# Altium footprint library 我的PCB.PcbLib: 347 footprints (part 22 of 22)
Each footprint in its own frame and in the unit in brackets; x right, y up, seen from the top. Pads: shape width x height; smd on the part's side, far side on the other; paste and mask are expansions set on the pad; w line width, h text height; cw(c..) or ccw(c..) is an arc to the next point about the centre after c.
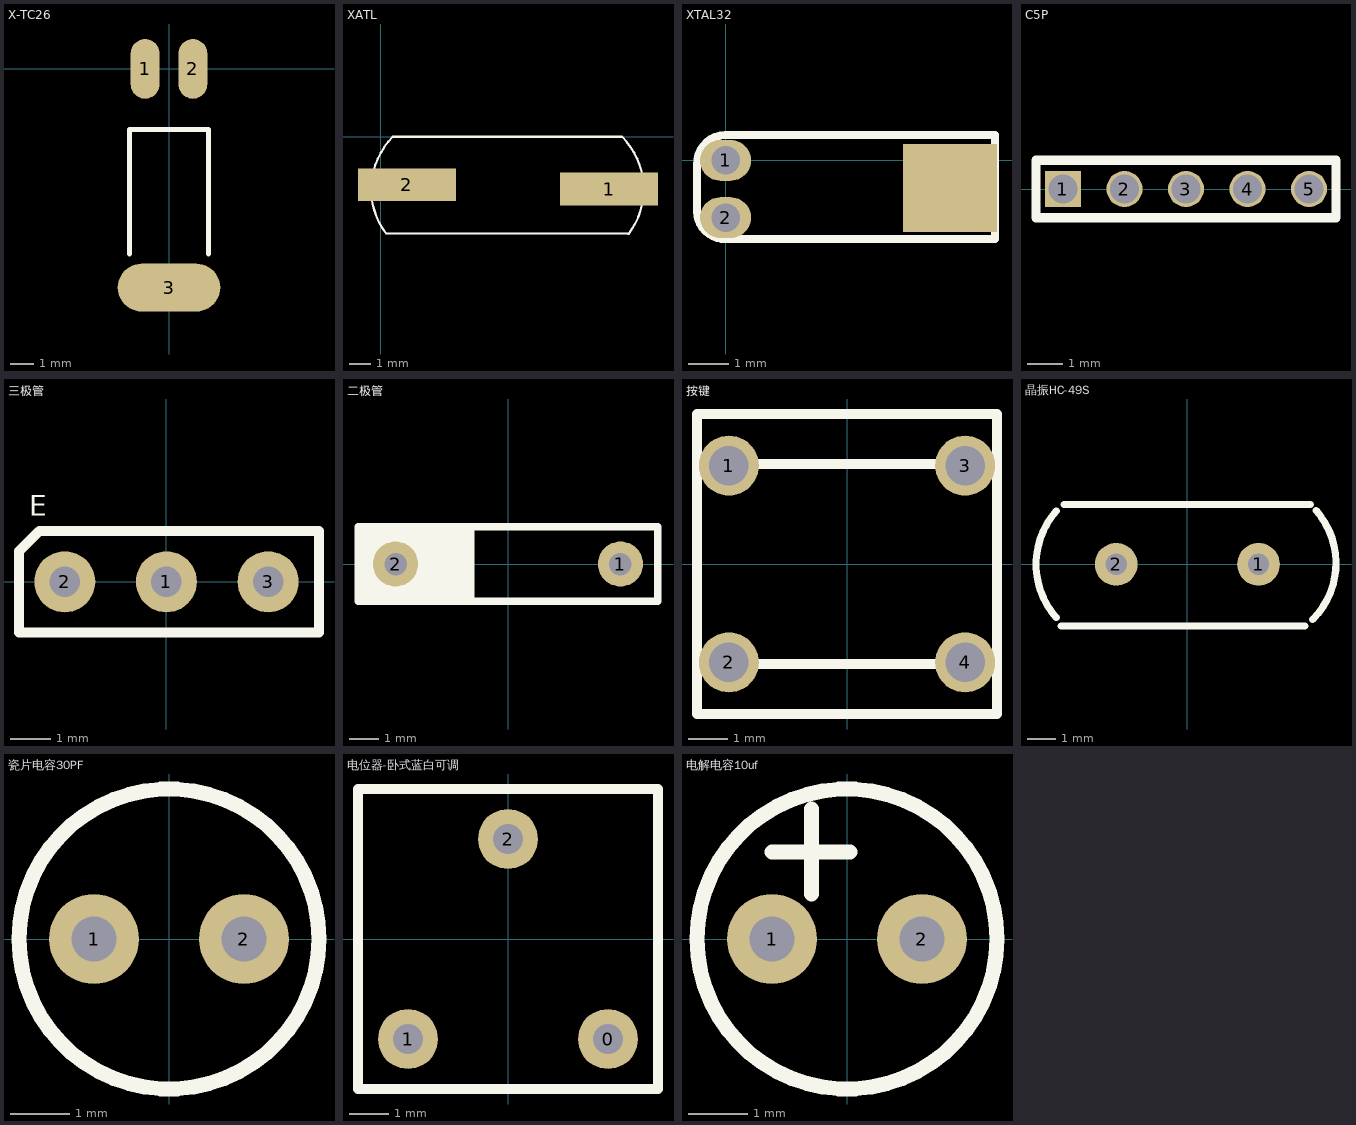
[diagram p21: the footprints below, top view; thin cyan lines are the x and y axes]

## X-TC26 [mm] "圆柱晶振2"
pads (3):
  oval 1.2x2.5 smd: 1(-1,0) 2(1,0)
  oval 4.3x2 smd: 3(0,-9.144)
Top Overlay:
  lines w0.2: -1.651,-7.747 -1.651,-2.54 1.651,-2.54 1.651,-7.747

## XATL [mm]
pads (2):
  rect 4.5x1.5 smd: 1(10.5,-2.4) 2(1.2,-2.2)
Top Overlay:
  lines w0.1: 0.247,-4.452 cw(c2.95,-2.4) 0.55,0 11.1,0 cw(c8.7,-2.4) 11.385,-4.477 ; 0.247,-4.45 11.385,-4.45

## XTAL32 [mil]
pads (3):
  oval 50x40 hole 28: 1(0,0) 2(0,-56)
  rect 92.13x86 smd: ""(220,-27)
Top Overlay:
  lines w8: -28,-50 ccw(c-0.5,-49.5) 0,-77 264,-77 264,25 0,25 ccw(c0.5,-3.5) -28,-4 -28,-50

## С5P [mm]
pads (5):
  rect 1x1 hole 0.8: 1(-10,0)
  round 1 hole 0.8: 2(-8.288,0) 3(-6.575,0) 4(-4.863,0) 5(-3.15,0)
Top Overlay:
  lines w0.254: -10.75,-0.8 -2.4,-0.8 -2.4,0.8 -10.75,0.8 -10.75,-0.8

## 三极管 [mil]
pads (3):
  round 60 hole 30: 1(0,0) 2(-100,0) 3(100,0)
Top Overlay:
  lines w10: -145,-50 -145,30 -125,50 150,50 150,-50 -145,-50
  text "E" at -135,65 h20

## 二极管 [mil]
pads (2):
  round 60 hole 30: 1(150,0) 2(-150,0)
Top Overlay:
  rectangle: -200,-50 -50,50
  lines w10: -100,-50 -100,50 ; -50,-50 -50,50 ; -200,-50 200,-50 200,50 -200,50 -200,-50

## 按键 [mm]
pads (4):
  round 1.524 hole 1: 1(-3,2.5) 2(-3,-2.5) 3(3,2.5) 4(3,-2.5)
Top Overlay:
  lines w0.254: -2.54,-2.54 2.54,-2.54 ; -2.54,2.54 2.54,2.54 ; -3.81,-3.81 -3.81,3.81 3.81,3.81 3.81,-3.81 -3.81,-3.81
3D body: height 8, standoff -3.5, extent -4.134,-3.4 4.134,3.1

## 晶振HC-49S [mil]
pads (2):
  round 60 hole 30: 1(100,0) 2(-100,0)
Top Overlay:
  lines w10: -184.12,-74.85 cw(c-100,0) -184.12,74.85 ; -177.17,-86.61 165.35,-86.61 ; -173.23,84.25 173.23,84.25 ; 176.01,-77.58 ccw(c96.85,1.57) 180.88,75.55
3D body: height 137.8, standoff -157.48, extent -223.43,-93.07 223.43,90

## 瓷片电容30PF [mil]
pads (2):
  round 60 hole 30: 1(-50,0) 2(50,0)
Top Overlay:
  circle w10: c0,0 r100

## 电位器-卧式蓝白可调 [mil] "滑动变阻器"
pads (3):
  round 60 hole 30: 0(100,-100) 1(-100,-100) 2(0,100)
Top Overlay:
  lines w10: -150,-150 150,-150 150,150 -150,150 -150,-150
3D body: height 295.28, standoff -78.74, extent -125.98,-137.8 125.98,137.8

## 电解电容10uf [mil]
pads (2):
  round 60 hole 30: 1(-50,0) 2(50,0)
Top Overlay:
  circle w10: c0,0 r100
  lines w10: -50,57.87 2,57.87 ; -23.62,29.92 -23.62,86.61
3D body: height 464.57, standoff -401.57, extent -126.97,-125.98 125,125.98